# Altium footprint library PCB - THT - LEM - HC5FW.PCBLIB: 1 footprints
Each footprint in its own frame and in the unit in brackets; x right, y up, seen from the top. Pads: shape width x height; smd on the part's side, far side on the other; paste and mask are expansions set on the pad; w line width, h text height; cw(c..) or ccw(c..) is an arc to the next point about the centre after c.
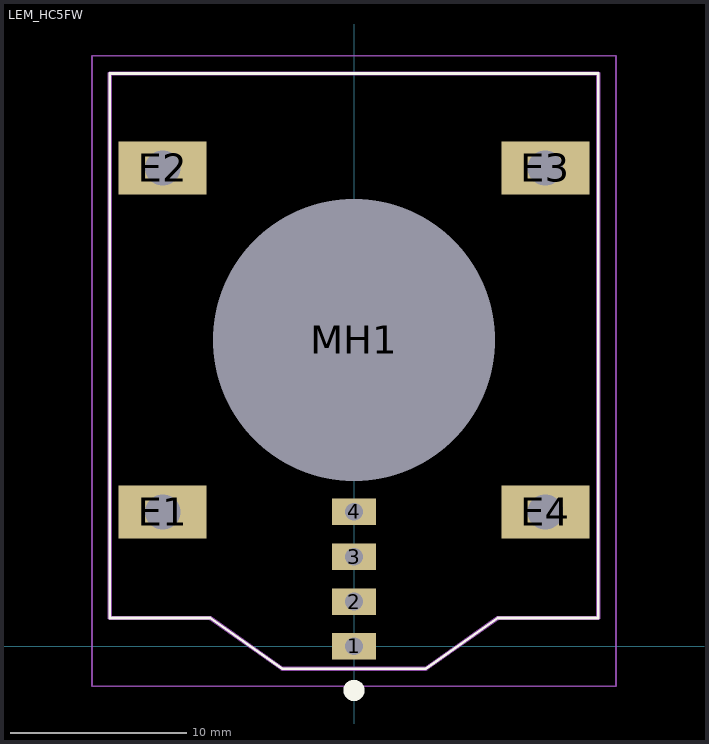
[diagram p0: the footprint, top view; thin cyan lines are the x and y axes]

## LEM_HC5FW [mm]
pads (9):
  rect 2.5x1.5 hole 1: 1(0,0) 2(0,2.54) 3(0,5.08) 4(0,7.62)
  rect 5x3 hole 2: E1(-10.85,7.62) E2(-10.85,27.12) E3(10.85,27.12) E4(10.85,7.62)
  round 8 hole 16 unplated: MH1(0,17.37)
Top Overlay:
  circle w1: c0,-2.5 r0.1
  lines w0.15: -13.85,1.605 -13.85,32.48 0,32.48 13.85,32.48 13.85,1.605 8.15,1.605 4.075,-1.27 -4.075,-1.27 -8.15,1.605 -13.85,1.605
Top Assembly:
  lines w0.25: -13.85,1.605 -8.15,1.605 -4.075,-1.27 4.075,-1.27 8.15,1.605 13.85,1.605 13.85,32.48 0,32.48 -13.85,32.48 -13.85,1.605
Top Courtyard:
  lines w0.1: -14.85,-2.27 14.85,-2.27 14.85,33.48 -14.85,33.48 -14.85,-2.27
Top Designator:
  text ".Designator" at -14.732,36.322 h1
Top Value (Mech13):
  text ".Comment" at -14.732,34.925 h1
3D body "HC5FW900-S_SP1.stp": height 12.4, standoff -1.7, extent -13.85,-1.27 13.85,32.48